# Altium schematic symbol library Seeeduino XIAO.SchLib: 1 symbol
Pins are listed as number, name and electrical type; pins without a type are passive.

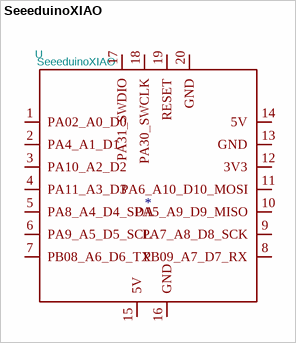
[diagram p0: symbol SeeeduinoXIAO]

## SeeeduinoXIAO
designator U  value SeeeduinoXIAO
pins: 1 PA02_A0_D0, 2 PA4_A1_D1, 3 PA10_A2_D2, 4 PA11_A3_D3, 5 PA8_A4_D4_SDA, 6 PA9_A5_D5_SCL, 7 PB08_A6_D6_TX, 8 PB09_A7_D7_RX, 9 PA7_A8_D8_SCK, 10 PA5_A9_D9_MISO, 11 PA6_A10_D10_MOSI, 12 3V3, 13 GND, 14 5V, 15 5V, 16 GND, 17 PA31_SWDIO, 18 PA30_SWCLK, 19 RESET, 20 GND